# Altium schematic symbol library MOSFET,N Ch,600V,18A.Schlib: 1 symbol
Pins are listed as number, name and electrical type; pins without a type are passive.

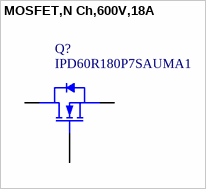
[diagram p0: symbol MOSFET,N Ch,600V,18A]

## MOSFET,N Ch,600V,18A
designator Q?, comment IPD60R180P7SAUMA1
N-Channel 600 V 18A (Tc) 72W (Tc) Surface Mount PG-TO252-3
pins: 1 G, 3 S, 4 D